# Altium footprint library PCB - LEADLESS - RAA2261104GNP#HA0.PcbLib: 1 footprints
Each footprint in its own frame and in the unit in brackets; x right, y up, seen from the top. Pads: shape width x height; smd on the part's side, far side on the other; paste and mask are expansions set on the pad; w line width, h text height; cw(c..) or ccw(c..) is an arc to the next point about the centre after c.
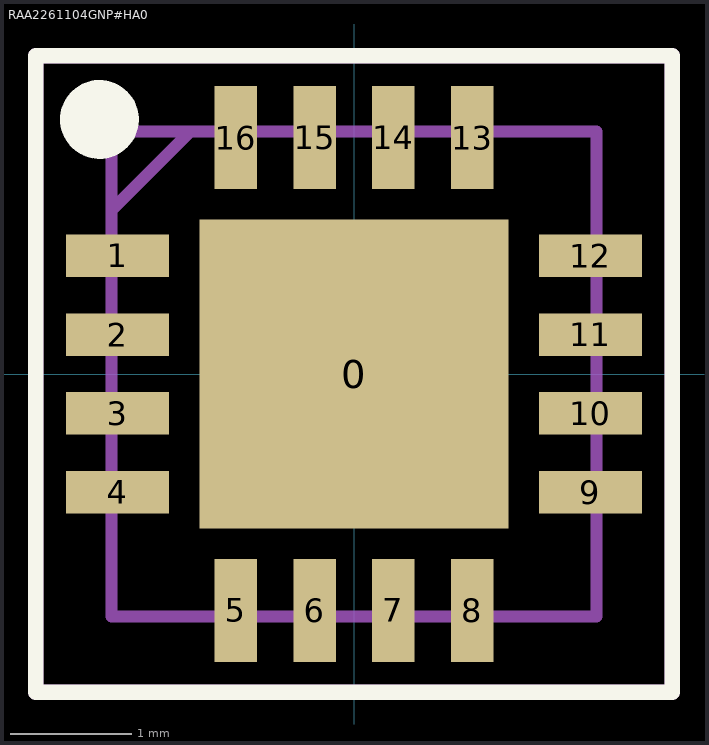
[diagram p0: the footprint, top view; thin cyan lines are the x and y axes]

## RAA2261104GNP#HA0 [mm]
pads (17):
  rect 2.55x2.55 smd: 0(0,0)
  rect 0.85x0.35 smd: 1(-1.95,0.975) 2(-1.95,0.325) 3(-1.95,-0.325) 4(-1.95,-0.975) 9(1.95,-0.975) 10(1.95,-0.325) 11(1.95,0.325) 12(1.95,0.975)
  rect 0.35x0.85 smd: 5(-0.975,-1.95) 6(-0.325,-1.95) 7(0.325,-1.95) 8(0.975,-1.95) 13(0.975,1.95) 14(0.325,1.95) 15(-0.325,1.95) 16(-0.975,1.95)
Top Overlay:
  circle w0.325: c-2.1,2.1 r0.162
  lines w0.127: -2.625,-2.625 2.625,-2.625 2.625,2.625 -2.625,2.625 -2.625,-2.625
Top Assembly:
  lines w0.1: -2,1.35 -1.35,2 ; -2,-2 2,-2 2,2 -2,2 -2,-2
Top Courtyard:
  lines w0.127: -2.625,-2.625 2.625,-2.625 2.625,2.625 -2.625,2.625 -2.625,-2.625
Top Designator:
  text ".Designator" at -2.5,3.167 h0.8
Top Component Center:
  lines w0.127: -1,0 1,0 ; 0,-1 0,0 0,1
3D body "RAA2261104GNP#AA0.stp": height 1, standoff 0, extent -2.05,-2.05 2.05,2.05